# Altium schematic symbol library CRYSTAL_SMD.SchLib: 8 symbols
Pins are listed as number, name and electrical type; pins without a type are passive.

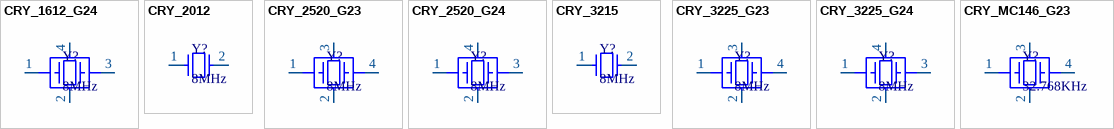
[diagram p0: symbols CRY_1612_G24 to CRY_MC146_G23]

## CRY_1612_G24
designator Y?, comment 8MHz
1612 SMD Crystal 4 pin, GND pin 2-4.
footprint Y_1612 (Crystal SMD_1612)
pins: 1, 2, 3, 4

## CRY_2012
designator Y?, comment 8MHz
2012 SMD Crystal 2 Pin.
footprint Y_2012 (Crystal SMD_2012)
pins: 1, 2

## CRY_2520_G23
designator Y?, comment 8MHz
2520 SMD Crystal 4 pin, GND pin 2-3.
footprint Y_2520 (Crystal SMD_2520)
pins: 1, 2, 3, 4

## CRY_2520_G24
designator Y?, comment 8MHz
2520 SMD Crystal 4 pin, GND pin 2-4.
footprint Y_2520 (Crystal SMD_2520)
pins: 1, 2, 3, 4

## CRY_3215
designator Y?, comment 8MHz
3215 SMD Crystal 2 Pin.
footprint Y_3215 (Crystal SMD_3215)
pins: 1, 2

## CRY_3225_G23
designator Y?, comment 8MHz
3225 SMD Crystal 4 pin, GND pin 2-3.
footprint Y_3225 (Crystal SMD_3225)
pins: 1, 2, 3, 4

## CRY_3225_G24
designator Y?, comment 8MHz
3225 SMD Crystal 4 pin, GND pin 2-4.
footprint Y_3225 (Crystal SMD_3225)
pins: 1, 2, 3, 4

## CRY_MC146_G23
designator Y?, comment 32.768KHz
MC146 SMD Crystal 4 pin, GND pin 2-3.
footprint Y_MC146 (Crystal SMD MC146)
pins: 1, 2, 3, 4